# Altium integrated library Passives.IntLib: 23 symbols
Pins are listed as number, name and electrical type; pins without a type are passive.

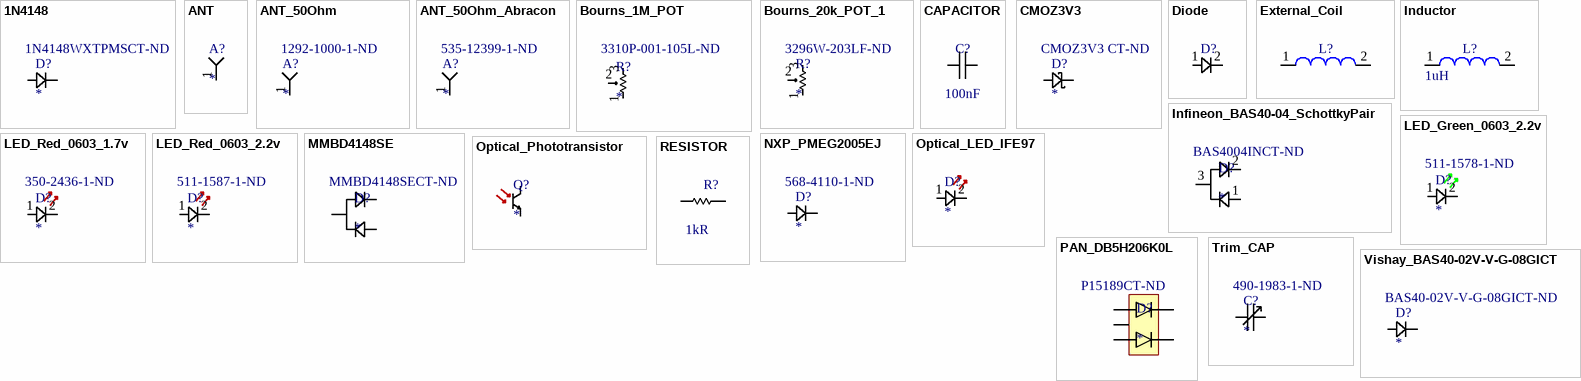
[diagram p0: symbols 1N4148 to Vishay_BAS40-02V-V-G-08GICT]

## 1N4148
designator D?  Supplier Part Number 1: 1N4148WXTPMSCT-ND
Supplier 1: Digi-Key
footprint 1N4148_SOD323_SC70
pins: 1, 2

## ANT
designator A?
external hole
footprint Hole
pins: 1

## ANT_50Ohm
designator A?  Supplier Part Number 1: 1292-1000-1-ND
Supplier 1: Digi-Key
footprint RES1206R (resistor 1206 reflow soldering)
pins: 1

## ANT_50Ohm_Abracon
designator A?  Supplier Part Number 1: 535-12399-1-ND
Abracon ACA-102-T; Supplier 1: Digi-Key
footprint ABRACON_ACA-102_T (DFN, 2-Leads, Body 2.00x1.20mm, Pitch 0.90mm, IPC High Density)
pins: 1

## Bourns_1M_POT
designator R?  Supplier Part Number 1: 3310P-001-105L-ND
1M Linear POT; Supplier 1: Digikey
footprint Bourns_3310P (1M_POT)
pins: 1, 2, 3

## Bourns_20k_POT_1
designator R?  Supplier Part Number 1: 3296W-203LF-ND
20k Pot; Supplier 1: Digikey
footprint BOURNS_3296W (20Kpot)
pins: 1, 2, 3

## CAPACITOR
designator C?, comment 100nF
Generic Capacitor Symbol; Value: 100nF
footprint RES0402R (resistor 0402 reflow soldering)
footprint RES1206R (resistor 1206 reflow soldering)
pins: 1, 2

## CMOZ3V3
designator D?  Supplier Part Number 1: CMOZ3V3 CT-ND
3.3V Zener SOD523; Supplier 1: Digi-Key
footprint SOD523 (SODFL, 2-Leads, Body 0.80x1.60mm, IPC High Density)
pins: 1, 2

## Diode
designator D?
footprint SOD323_SC70
pins: 1, 2

## External_Coil
designator L?
footprint External_Coil
pins: 1, 2

## Inductor
designator L?, comment 1uH
Value: 1uH
footprint RES0603R (resistor 0603 reflow soldering)
footprint RES0805R (resistor 0805 reflow soldering)
footprint RES0402R (resistor 0402 reflow soldering)
pins: 1, 2

## Infineon_BAS40-04_SchottkyPair
designator D?  Supplier Part Number 1: BAS4004INCT-ND
Supplier 1: Digi-Key
footprint Infineon_BAS40-04 (SOT23, 3-Leads, Body 2.90x2.40mm, Pitch 0.95mm, IPC Medium Density)
pins: 1, 2, 3

## LED_Green_0603_2.2v
designator D?  Supplier Part Number 1: 511-1578-1-ND
Supplier 1: Digi-Key
footprint 0603 Green LED
pins: 1, 2

## LED_Red_0603_1.7v
designator D?  Supplier Part Number 1: 350-2436-1-ND
Supplier 1: Digi-Key
footprint 0603 RED LED
pins: 1, 2

## LED_Red_0603_2.2v
designator D?  Supplier Part Number 1: 511-1587-1-ND
Supplier 1: Digi-Key
footprint 0603 RED LED
pins: 1, 2

## MMBD4148SE
designator D?  Supplier Part Number 1: MMBD4148SECT-ND
Supplier 1: Digi-Key
footprint Fairchild_MMBD4148SE
pins: 1, 2, 3

## NXP_PMEG2005EJ
designator D?  Supplier Part Number 1: 568-4110-1-ND
20V 500mA Schottky; Supplier 1: Digi-Key
footprint SOD323_SC70
pins: 1, 2

## Optical_LED_IFE97
designator D?
High power red LED for low data rates
footprint IF_E97 (High power red LED for low data rates)
pins: 1, 2

## Optical_Phototransistor
designator Q?
Photodetector
footprint IF_E97 (High power red LED for low data rates)
pins: 1 C, 2 E

## PAN_DB5H206K0L
designator D?  Supplier Part Number 1: P15189CT-ND
Dual Schottky; Supplier 1: Digi-Key
footprint PAN_DB5H206K_SOTFL5 (SOTFL, 5-Leads, Body 2.00x2.10mm, Pitch 0.65mm, IPC Medium Density)
pins: 1, 2, 3, 4, 5

## RESISTOR
designator R?, comment 1kR
Generic Resistor Symbol; Value: 1kR
footprint RES0402R (resistor 0402 reflow soldering)
pins: 1, 2

## Trim_CAP
designator C?  Supplier Part Number 1: 490-1983-1-ND
Supplier 1: Digi-Key
footprint Murata_TZB4_Trim (Trim Cap)
pins: 1, 2

## Vishay_BAS40-02V-V-G-08GICT
designator D?  Supplier Part Number 1: BAS40-02V-V-G-08GICT-ND
40V 200mA Schottky; Supplier 1: Digikey
footprint SOD523 (SODFL, 2-Leads, Body 0.80x1.60mm, IPC High Density)
pins: 1, 2